# Altium schematic symbol library RES,Thermistor,3380K,0402.Schlib: 1 symbol
Pins are listed as number, name and electrical type; pins without a type are passive.

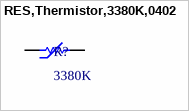
[diagram p0: symbol RES,Thermistor,3380K,0402]

## RES,Thermistor,3380K,0402
designator R?, comment 3380K
NTC Thermistor 10k 0402 (1005 Metric)
pins: 1, 2